# EAGLE library part MCP4725 (library FSAE Electric (Alexander Ray's conflicted copy 2016-04-02))
IC DAC 12BIT EE W/I2C SOT23-6
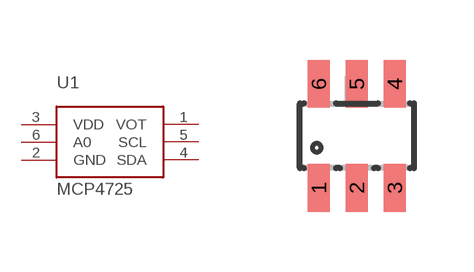
[diagram p9: symbol with the pads of SOT23-6; footprint SOT23-6]

Designator prefix U1

## MCP4725 (PARTNO: MCP4725A2T-E/CH)  [SOT23-6]
1  VOT
2  GND
3  VDD
4  SDA
5  SCL
6  A0

## Footprint SOT23-6 (pad centres in mm)
smd 0.55 x 1.2: 1 -0.95,-1.3; 2 0,-1.3; 3 0.95,-1.3; 4 0.95,1.3; 5 0,1.3; 6 -0.95,1.3